# Altium schematic symbol library KLS2.SchLib: 2 symbols
Pins are listed as number, name and electrical type; pins without a type are passive.

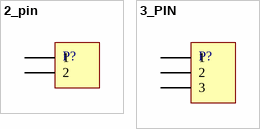
[diagram p0: symbols 2_pin to 3_PIN]

## 2_pin
designator P?  (value not drawn)
DG301
footprint DG301_2pin
pins: 1, 2

## 3_PIN
designator P?  (value not drawn)
DG301
footprint DG301_3pin
pins: 1, 2, 3